# Altium integrated library POWER_COMPONENTS.IntLib: 16 symbols
Pins are listed as number, name and electrical type; pins without a type are passive.

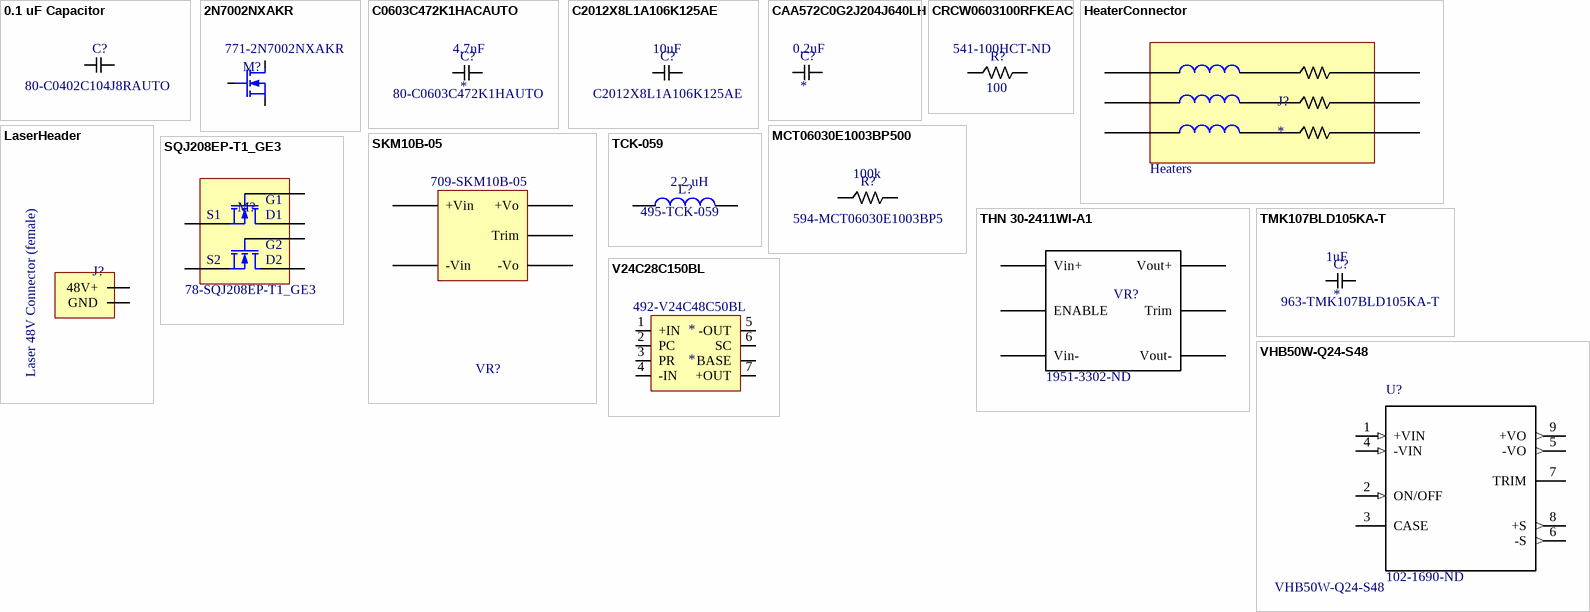
[diagram p0: symbols 0.1 uF Capacitor to VHB50W-Q24-S48]

## 0.1 uF Capacitor
designator C?  Supplier Part Number 1: 80-C0402C104J8RAUTO  (hidden comment: *)
0.1 uF Capacitor; Supplier 1: Mouser
footprint *INDC0805X55N
pins: 1, 2

## 2N7002NXAKR
designator M?  Supplier Part Number 1: 771-2N7002NXAKR  (hidden comment: *)
N-MOSFET for logic level switching; Supplier 1: Mouser
footprint SOT95P245X110-3N (SOT23, 3-Leads, Body 2.92x2.45mm, Pitch 0.95mm, IPC Medium Density)
pins: 1 G, 2 S, 3 D

## C0603C472K1HACAUTO
designator C?  value 4.7nF  Supplier Part Number 1: 80-C0603C472K1HAUTO
4700 pF capacitor for 48v converter emi filtering; Supplier 1: Mouser
footprint *RESC1608X55N
pins: 1, 2

## C2012X8L1A106K125AE
designator C?  value 10uF  Supplier Part Number: C2012X8L1A106K125AE  (hidden comment: *)
10 uF Capacitor
footprint *INDC0805X55N
simulation model CAP (Default semiconductor capacitor)
pins: 1, 2

## CAA572C0G2J204J640LH
designator C?  value 0.2uF
0.2uF Capacitor for 48V converter EMI filtering
footprint CAA572C0G2J204J640LH (2220 Footprint for CAA572C0G2J204J640LH)
pins: 1, 2

## CRCW0603100RFKEAC
designator R?  value 100  Supplier Part Number 1: 541-100HCT-ND  (hidden comment: *)
100 Ohm Resistor; Supplier 1: Digi-Key
footprint *RESC1608X55N
simulation model RES (Default semiconductor resistor)
pins: 1, 2

## HeaterConnector
designator J?
Symbolic schematic symbol showing the inductance and resitance of the heaters
footprint MOLEX 6x1 latch header (Single row, 6 position pin header with positive latch)
pins: 1, 2, 3, 4, 5, 6
text: Heaters

## LaserHeader
designator J?  (value not drawn)
2 pin molex connector for connecting laser to 48Vdc
footprint MOLEX 2X1 LATCH HEADER (2x1 female molex connector for laser)
pins: 1 48V+, 2 GND
text: Laser 48V Connector (female)

## MCT06030E1003BP500
designator R?  value 100k  Supplier Part Number 1: 594-MCT06030E1003BP5  (hidden comment: *)
100 kOhm Resistor; Supplier 1: Mouser
footprint *RESC1608X55N
simulation model RES (Default semiconductor resistor)
pins: 1, 2

## SKM10B-05
designator VR?  Supplier Part Number 1: 709-SKM10B-05  (hidden comment: *)
DC-DC Converter, 5V 10W; Supplier 1: Mouser
footprint SKM10B-05
pins: 1 +Vin, 2 -Vin, 3 +Vo, 4 Trim, 5 -Vo

## SQJ208EP-T1_GE3
designator M?, comment Supplier Part Number 1: 78-SQJ208EP-T1_GE3  (hidden comment: NPN MOSFET)
Two NPN Power Transistors for heater power control; Supplier 1: Mouser
footprint PowerPAK SO-8L DUAL ASYMMETRIC
pins: 1 D1, 2 S1, 3 G1, 4 D2, 5 S2, 6 G2

## TCK-059
designator L?  value 2.2 uH  Supplier Part Number 1: 495-TCK-059  (hidden comment: *)
2.2uH inductor; Supplier 1: Mouser
simulation model Model Name (Model Description)
footprint INDC6055X50N (Chip Inductor, 2-Leads, Body 6.00x5.50mm, IPC Medium Density)
pins: 1, 2

## THN 30-2411WI-A1
designator VR?  Supplier Part Number 1: 1951-3302-ND  (hidden comment: *)
28V to 5V converter; Supplier 1: Digi-Key
footprint THN 30-2411WI-A1
pins: 1 Vin+, 2 Vin-, 3 Vout+, 4 Trim, 5 Vout-, 6 ENABLE

## TMK107BLD105KA-T
designator C?  value 1uF  Supplier Part Number 1: 963-TMK107BLD105KA-T
1 uF Capacitor; Supplier 1: Mouser
footprint *RESC1608X55N
pins: 1, 2

## V24C28C150BL
designator *  Supplier Part Number 1: 492-V24C48C50BL
28V to 48V converter; Supplier 1: Mouser
footprint V24C48C50BL_tht (THT V24C48C50BL footprint)
pins: 1 +IN, 2 PC, 3 PR, 4 -IN, 5 -OUT, 6 SC, 7 +OUT, 8 BASE "Connection to aluminum baseplate"

## VHB50W-Q24-S48
designator U?  Supplier Part Number 1: 102-1690-ND
DC-DC Converter, 48V for laser; Value: *; Supplier 1: Digi-Key
footprint *CONV_VHB50W-Q24-S48
pins: 1 +VIN (in), 2 ON/OFF (in), 3 CASE, 4 -VIN (in), 5 -VO (out), 6 -S (out), 7 TRIM, 8 +S (out), 9 +VO (out)